# EAGLE library part BOB_ST_TI_ARM_LQFP48 (library CEDTv40 (1))
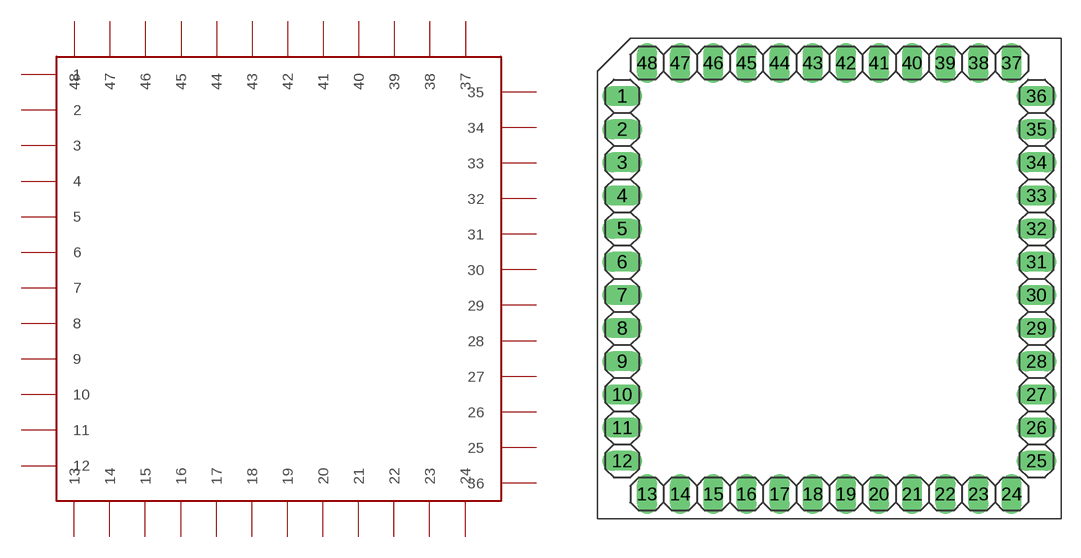
[diagram p41: symbol with the pads of LQFP48; footprint LQFP48]

Designator prefix -

## BOB_ST_TI_ARM_LQFP48  [LQFP48]
1  1  pas
2  2  pas
3  3  pas
4  4  pas
5  5  pas
6  6  pas
7  7  pas
8  8  pas
9  9  pas
10  10  pas
11  11  pas
12  12  pas
13  13  pas
14  14  pas
15  15  pas
16  16  pas
17  17  pas
18  18  pas
19  19  pas
20  20  pas
21  21  pas
22  22  pas
23  23  pas
24  24  pas
25  25  pas
26  26  pas
27  27  pas
28  28  pas
29  29  pas
30  30  pas
31  31  pas
32  32  pas
33  33  pas
34  34  pas
35  35  pas
36  36  pas
37  37  pas
38  38  pas
39  39  pas
40  40  pas
41  41  pas
42  42  pas
43  43  pas
44  44  pas
45  45  pas
46  46  pas
47  47  pas
48  48  pas

## Footprint LQFP48 (pad centres in mm)
48-pin Low Profile Quad Flat Pack
drill 1.016 long: 1 1.905,32.385; 2 1.905,29.845; 3 1.905,27.305; 4 1.905,24.765; 5 1.905,22.225; 6 1.905,19.685; 7 1.905,17.145; 8 1.905,14.605; 9 1.905,12.065; 10 1.905,9.525; 11 1.905,6.985; 12 1.905,4.445; 13 3.81,1.905; 14 6.35,1.905; 15 8.89,1.905; 16 11.43,1.905; 17 13.97,1.905; 18 16.51,1.905; 19 19.05,1.905; 20 21.59,1.905; 21 24.13,1.905; 22 26.67,1.905; 23 29.21,1.905; 24 31.75,1.905; 25 33.655,4.445; 26 33.655,6.985; 27 33.655,9.525; 28 33.655,12.065; 29 33.655,14.605; 30 33.655,17.145; 31 33.655,19.685; 32 33.655,22.225; 33 33.655,24.765; 34 33.655,27.305; 35 33.655,29.845; 36 33.655,32.385; 37 31.75,34.925; 38 29.21,34.925; 39 26.67,34.925; 40 24.13,34.925; 41 21.59,34.925; 42 19.05,34.925; 43 16.51,34.925; 44 13.97,34.925; 45 11.43,34.925; 46 8.89,34.925; 47 6.35,34.925; 48 3.81,34.925